# Altium footprint library IDTILab.PcbLib: 105 footprints (part 5 of 7)
Each footprint in its own frame and in the unit in brackets; x right, y up, seen from the top. Pads: shape width x height; smd on the part's side, far side on the other; paste and mask are expansions set on the pad; w line width, h text height; cw(c..) or ccw(c..) is an arc to the next point about the centre after c.
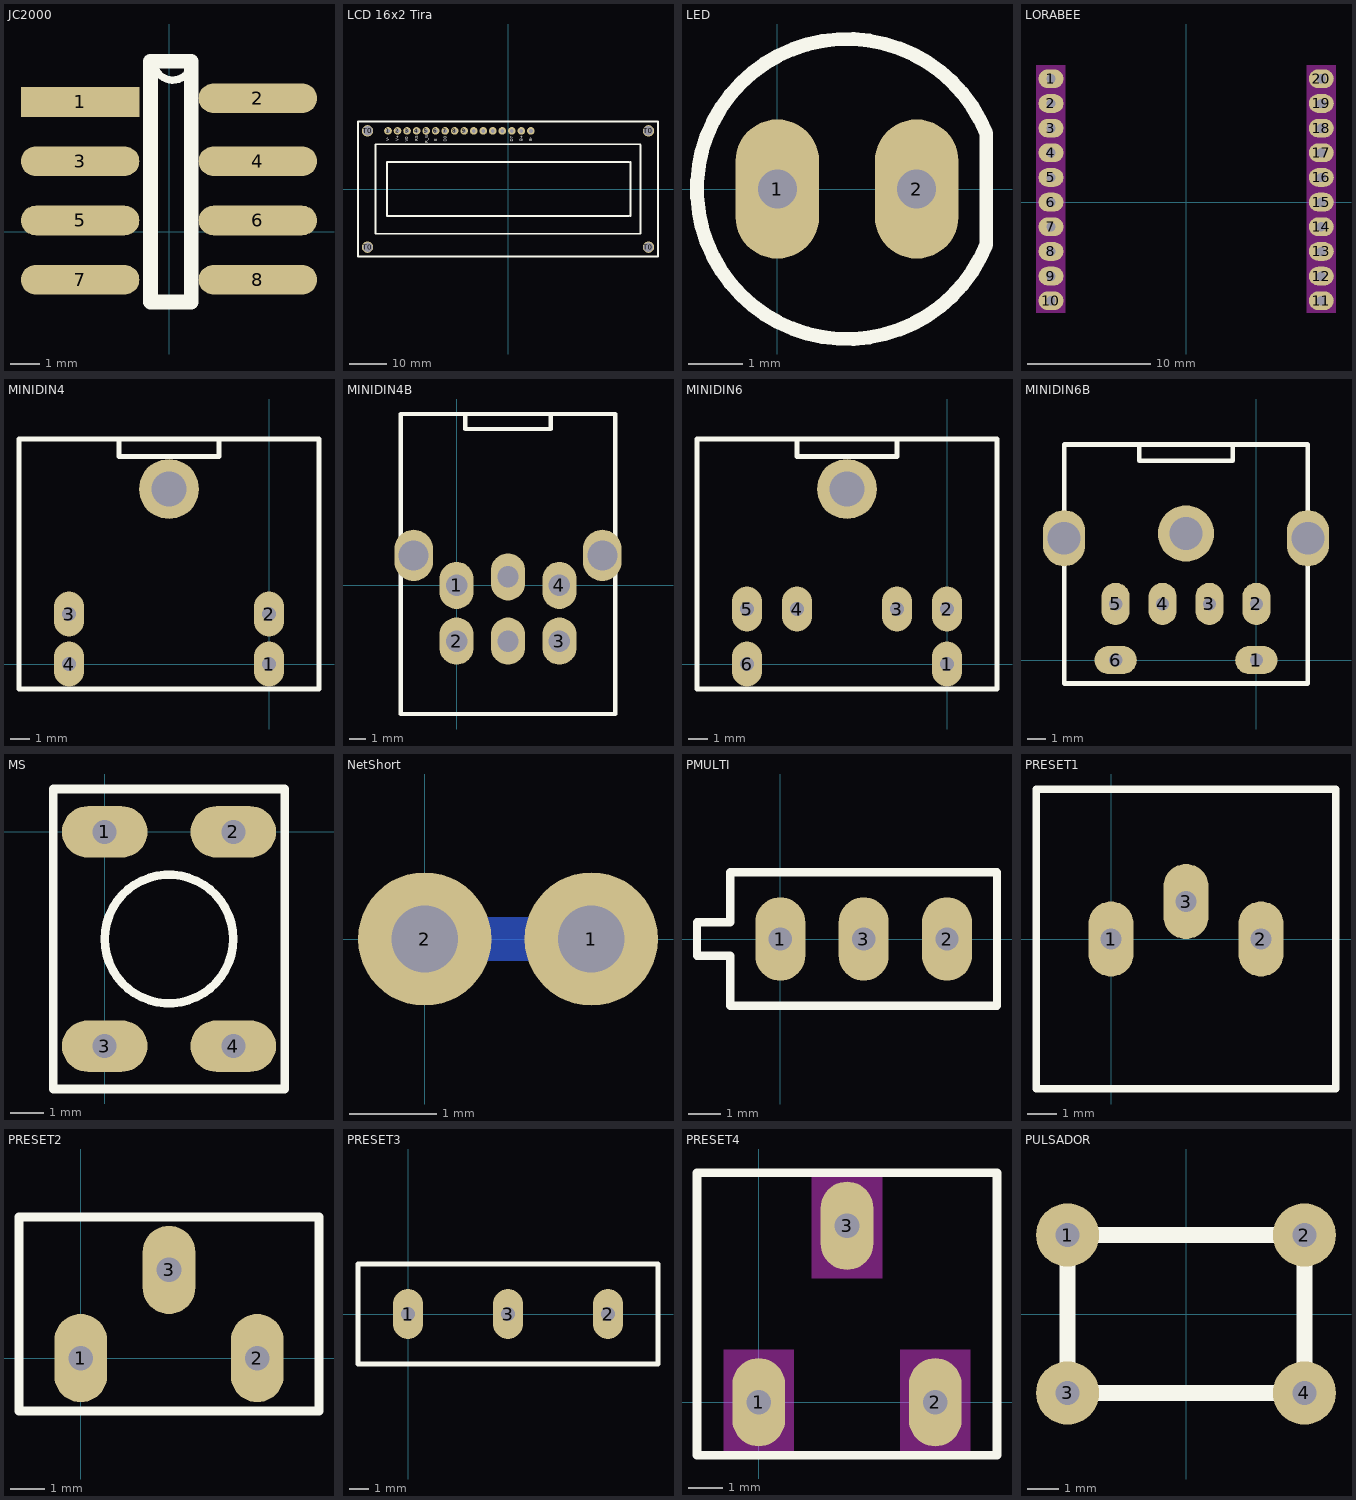
[diagram p4: the footprints below, top view; thin cyan lines are the x and y axes]

## JC2000 [mil]
pads (8):
  rect 160x40 smd: 1(-120,175)
  oval 160x40 smd: 2(120,180) 3(-120,95) 4(120,95) 5(-120,15) 6(120,15) 7(-120,-65) 8(120,-65)
Top Overlay:
  lines w10: -25,-90 -20,-90 ; -20.15,225.81 ccw(c5,230) 30,225
  lines w20: -25,-95 30,-95 ; -25,-90 -25,230 30,230 30,-90

## LCD 16x2 Tira [mil]
pads (20):
  round 80 hole 40: 1(-1260,610) 2(-1160,610) 3(-1060,610) 4(-960,610) 5(-860,610) 6(-760,610) 7(-660,610) 8(-560,610) 9(-460,610) 10(-360,610) 11(-260,610) 12(-160,610) 13(-60,610) 14(40,610) 15(140,610) 16(240,610)
  round 120 hole 100: T0(-1475,-610) T0(-1475,610) T0(1475,-610) T0(1475,610)
Top Overlay:
  lines w20: -1390,-470 1390,-470 1390,455 ; -1390,-465 -1390,470 1390,470 ; 1270,-285 -1270,-285 -1270,285 1270,285 ; 1285,-285 1285,285 ; -1575,-710 -1575,710 1575,710 1575,-710 -1575,-710
  text "B-" at 255,500 h30
  text "B+" at 155,500 h30
  text "D7" at 55,495 h30
  text "D0" at -645,495 h30
  text "E" at -745,500 h30
  text "R_W" at -840,480 h30
  text "RS" at -945,500 h30
  text "V0" at -1045,495 h30
  text "V+" at -1145,500 h30
  text "V-" at -1245,500 h30

## LED [mil]
pads (2):
  oval 60x100 hole 28: 1(0,0) 2(100,0)
Top Overlay:
  lines w10: 150,-40 cw(c50,0) 150,40 150,-40

## LORABEE [mil] "Top Layer Bloqueada"
pads (20):
  oval 80x60 hole 30: 1(-433,395) 2(-433,316) 3(-433,237) 4(-433,158) 5(-433,79) 6(-433,0) 7(-433,-79) 8(-433,-158) 9(-433,-237) 10(-433,-316) 11(433,-316) 12(433,-237) 13(433,-158) 14(433,-79) 15(433,0) 16(433,79) 17(433,158) 18(433,237) 19(433,316) 20(433,395)
Top Layer keep-out:
  rectangle: 385,-355 480,440
  rectangle: -481,-355 -386,440

## MINIDIN4 [mil]
pads (5):
  oval 60x90 hole 28: 1(0,0) 2(0,100) 3(-400,100) 4(-400,0)
  round 120 hole 70: ""(-200,350)
Top Overlay:
  lines w10: -300,450 -300,415 -100,415 -100,450 ; -500,-50 100,-50 100,450 -500,450 -500,-50

## MINIDIN4B [mil]
pads (8):
  oval 80x110 hole 50: 1(0,0) 2(0,-130) 3(240,-130) 4(240,0) ""(120,-130) ""(120,20)
  oval 90x120 hole 70: ""(-100,70) ""(340,70)
Top Overlay:
  lines w10: 20,400 20,365 220,365 220,400 ; -130,-300 370,-300 370,400 -130,400 -130,-300

## MINIDIN6 [mil]
pads (7):
  oval 60x90 hole 28: 1(0,0) 2(0,110) 3(-100,110) 4(-300,110) 5(-400,110) 6(-400,0)
  round 120 hole 70: ""(-200,350)
Top Overlay:
  lines w10: -300,450 -300,415 -100,415 -100,450 ; -500,-50 100,-50 100,450 -500,450 -500,-50

## MINIDIN6B [mil]
pads (9):
  oval 90x60 hole 28: 1(0,0) 6(-300,0)
  oval 60x90 hole 28: 2(0,120) 3(-100,120) 4(-200,120) 5(-300,120)
  oval 90x120 hole 70: ""(-410,260) ""(110,260)
  round 120 hole 70: ""(-150,270)
Top Overlay:
  lines w10: -250,460 -250,425 -50,425 -50,460 ; -410,-50 -410,460 110,460 110,-50 -410,-50

## MS [mil]
pads (4):
  oval 100x60 hole 28: 1(0,0) 2(150,0) 3(0,-250) 4(150,-250)
Top Overlay:
  circle w10: c75,-125 r75
  lines w10: -60,-300 -60,50 210,50 210,-300 200,-300 -60,-300

## NetShort [mil]
pads (2):
  round 60 hole 30: 1(75,0) 2(0,0)
Bottom Layer:
  lines w20: 0,0 75,0

## PMULTI [mil]
pads (3):
  oval 60x100 hole 28: 1(0,0) 2(200,0) 3(100,0)
Top Overlay:
  lines w10: -100,-20 -100,20 -60,20 -60,80 260,80 260,-80 -60,-80 -60,-20 -100,-20

## PRESET1 [mil]
pads (3):
  oval 60x100 hole 28: 1(0,0) 2(200,0) 3(100,50)
Top Overlay:
  lines w10: -100,-200 300,-200 300,200 -100,200 -100,0 -100,-200

## PRESET2 [mil]
pads (3):
  oval 60x100 hole 28: 1(0,0) 2(200,0) 3(100,100)
Top Overlay:
  lines w10: -70,-60 270,-60 270,160 -70,160 -70,0 -70,-60

## PRESET3 [mil]
pads (3):
  oval 60x100 hole 28: 1(0,0) 2(400,0) 3(200,0)
Top Overlay:
  lines w10: -100,-100 500,-100 500,100 -100,100 -100,0 -100,-100

## PRESET4 [mil] "Preset acostado con top layer bloqueado"
pads (3):
  oval 60x100 hole 28: 1(0,0) 2(200,0) 3(100,200)
Top Layer keep-out:
  rectangle: 160,-60 240,60
  rectangle: -40,-60 40,60
  rectangle: 60,140 140,260
Top Overlay:
  lines w10: -70,-60 270,-60 270,260 -70,260 -70,0 -70,-60

## PULSADOR [mil]
pads (4):
  round 80 hole 30: 1(-150,100) 2(150,100) 3(-150,-100) 4(150,-100)
Top Overlay:
  lines w20: -150,-100 -150,100 150,100 150,-100 -150,-100